# Altium footprint library PCB - LED - VISHAY VSMY3940X01.PCBLIB: 1 footprints
Each footprint in its own frame and in the unit in brackets; x right, y up, seen from the top. Pads: shape width x height; smd on the part's side, far side on the other; paste and mask are expansions set on the pad; w line width, h text height; cw(c..) or ccw(c..) is an arc to the next point about the centre after c.
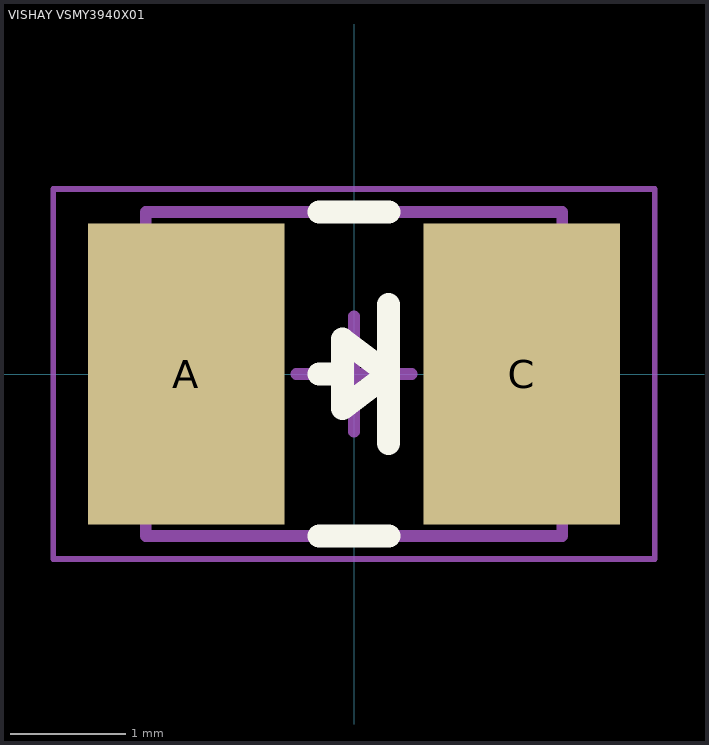
[diagram p0: the footprint, top view; thin cyan lines are the x and y axes]

## VISHAY VSMY3940X01 [mm] "SOJ, 6-Leads, Body 3.5x2.80mm"
height 1.85
pads (2):
  rect 1.7x2.6 smd: A(-1.45,0) C(1.45,0)
Top Overlay:
  lines w0.2: -0.3,0.001 -0.1,0.001 ; -0.3,-1.4 0.3,-1.4 ; -0.3,1.4 0.3,1.4 ; 0.3,-0.599 0.3,0.601 ; -0.1,-0.299 -0.1,0.301 0.3,0.001 -0.1,-0.299
Mechanical 13:
  circle w0.1: c-1,0.7 r0.3
  lines w0.1: -1.8,-1.4 1.8,-1.4 1.8,1.4 -1.8,1.4 -1.8,-1.4
Mechanical 15:
  lines w0.05: -2.6,-1.6 2.6,-1.6 2.6,1.6 -2.6,1.6 -2.6,-1.6
  lines w0.1: -0.5,0 0.5,0 ; 0,-0.5 0,0.5
3D body "Vishay VSMY3940X01.step": height 1.75, standoff 0, extent -1.749,-1.4 1.749,1.4